# EAGLE library part TSC2013 (library X893)
TSC2013 <http://www.ti.com/lit/ds/slvsc89a/slvsc89a.pdf>
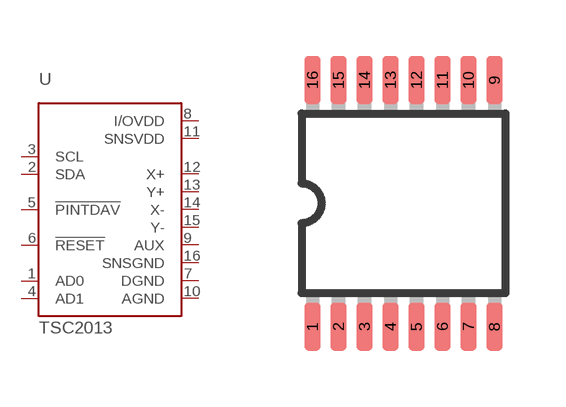
[diagram p241: symbol with the pads of TSSOP16; footprint TSSOP16]

Designator prefix U

## TSC2013  [TSSOP16]
1  AD0  in
2  SDA  in
3  SCL  in
4  AD1  in
5  !PINTDAV  in
6  !RESET  in
7  DGND  in
8  I/OVDD  in
9  AUX  in
10  AGND  in
11  SNSVDD  in
12  X+  in
13  Y+  in
14  X-  in
15  Y-  in
16  SNSGND  in

## Footprint TSSOP16 (pad centres in mm)
TSOP16 thin small outline package
smd 0.4 x 1.2: 1 -2.275,-3.087; 2 -1.625,-3.087; 3 -0.975,-3.087; 4 -0.325,-3.087; 5 0.325,-3.087; 6 0.975,-3.087; 7 1.625,-3.087; 8 2.275,-3.087; 9 2.275,3.087; 10 1.625,3.087; 11 0.975,3.087; 12 0.325,3.087; 13 -0.325,3.087; 14 -0.975,3.087; 15 -1.625,3.087; 16 -2.275,3.087